# Altium footprint library U_Conn2x10HalfA.PcbLib: 1 footprints
Each footprint in its own frame and in the unit in brackets; x right, y up, seen from the top. Pads: shape width x height; smd on the part's side, far side on the other; paste and mask are expansions set on the pad; w line width, h text height; cw(c..) or ccw(c..) is an arc to the next point about the centre after c.
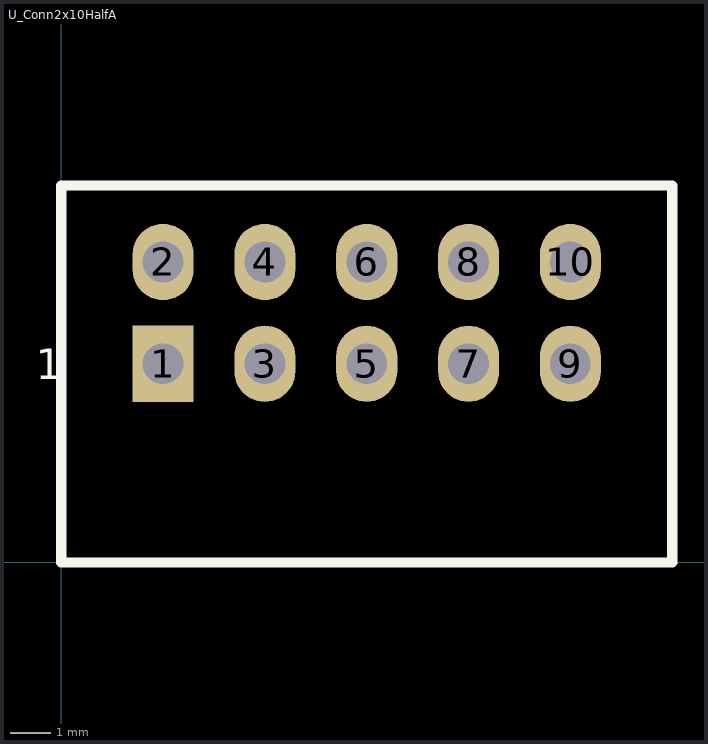
[diagram p0: the footprint, top view; thin cyan lines are the x and y axes]

## U_Conn2x10HalfA [mil]
pads (10):
  rect 60x75 hole 40: 1(100,195)
  oval 60x75 hole 40: 2(100,295) 3(200,195) 4(200,295) 5(300,195) 6(300,295) 7(400,195) 8(400,295) 9(500,195) 10(500,295)
Top Overlay:
  lines w10: 0,0 0,370 600,370 600,0 0,0
  text "1" at -25,180 h30
3D body: height 198.43, standoff -100.79, extent 50,-309.44 550,309.46